# Altium schematic symbol library Crystal.SchLib: 3 symbols
Pins are listed as number, name and electrical type; pins without a type are passive.

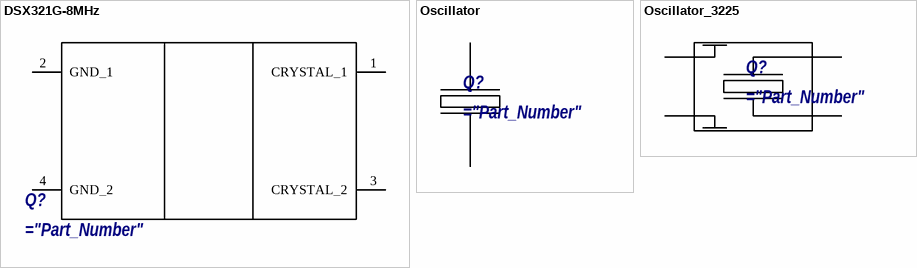
[diagram p0: symbols DSX321G-8MHz to Oscillator_3225]

## DSX321G-8MHz
designator Q?
="Description"
simulation model Crystal (Model Description)
pins: 1 CRYSTAL_1, 2 GND_1, 3 CRYSTAL_2, 4 GND_2

## Oscillator
designator Q?
="Description"; F0: 1MEG; Q: 50K; R: 500
simulation model Crystal (Model Description)
pins: 1, 2

## Oscillator_3225
designator Q?
="Description"; F0: 1MEG; Q: 50K; R: 500
simulation model Crystal (Model Description)
pins: 1 CRYSTAL_1, 2 GND_1, 3 CRYSTAL_2, 4 GND_2